# Altium integrated library 74_Series.IntLib: 3 symbols
Pins are listed as number, name and electrical type; pins without a type are passive.

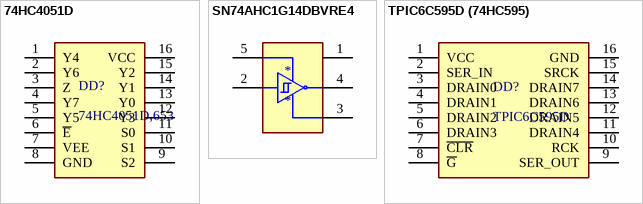
[diagram p0: symbols 74HC4051D to TPIC6C595D (74HC595)]

## 74HC4051D
designator DD?, comment 74HC4051D,653
footprint 74HC4051D
pins: 1 Y4, 2 Y6, 3 Z, 4 Y7, 5 Y5, 6 ~{E}, 7 VEE, 8 GND, 9 S2, 10 S1, 11 S0, 12 Y3, 13 Y0, 14 Y1, 15 Y2, 16 VCC

## SN74AHC1G14DBVRE4
designator *
footprint SN74AHC1G14DBVRE4
pins: 1 NC, 2 A, 3 GND (power), 4 Y, 5 VCC (power)

## TPIC6C595D (74HC595)
designator DD?, comment TPIC6C595D
footprint TPIC6C595D
pins: 1 VCC, 2 SER_IN, 3 DRAIN0, 4 DRAIN1, 5 DRAIN2, 6 DRAIN3, 7 ~{CLR}, 8 ~{G}, 9 SER_OUT, 10 RCK, 11 DRAIN4, 12 DRAIN5, 13 DRAIN6, 14 DRAIN7, 15 SRCK, 16 GND